# EAGLE library part DE0_NANO_SHIELD (library MODULES)
Mount for the DE0 Nano FPGA dev kit. Can be used for supporting electronics forthe DE0 Nano.
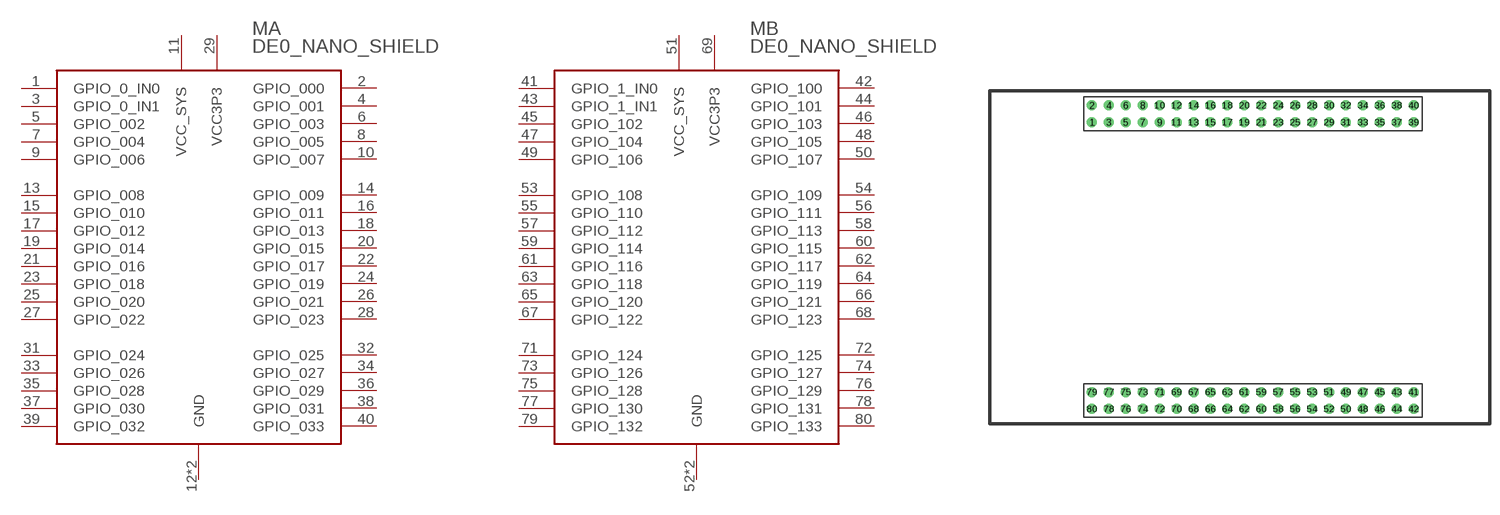
[diagram p7: symbol with the pads of DE0_NANO; footprint DE0_NANO]

Designator prefix M; gates A=DE0_NANO_JP1 B=DE0_NANO_JP2

## DE0_NANO_SHIELD  [DE0_NANO]
1  A:GPIO_0_IN0
2  A:GPIO_000
3  A:GPIO_0_IN1
4  A:GPIO_001
5  A:GPIO_002
6  A:GPIO_003
7  A:GPIO_004
8  A:GPIO_005
9  A:GPIO_006
10  A:GPIO_007
11  A:VCC_SYS
12  A:GND
13  A:GPIO_008
14  A:GPIO_009
15  A:GPIO_010
16  A:GPIO_011
17  A:GPIO_012
18  A:GPIO_013
19  A:GPIO_014
20  A:GPIO_015
21  A:GPIO_016
22  A:GPIO_017
23  A:GPIO_018
24  A:GPIO_019
25  A:GPIO_020
26  A:GPIO_021
27  A:GPIO_022
28  A:GPIO_023
29  A:VCC3P3
30  A:GND
31  A:GPIO_024
32  A:GPIO_025
33  A:GPIO_026
34  A:GPIO_027
35  A:GPIO_028
36  A:GPIO_029
37  A:GPIO_030
38  A:GPIO_031
39  A:GPIO_032
40  A:GPIO_033
41  B:GPIO_1_IN0
42  B:GPIO_100
43  B:GPIO_1_IN1
44  B:GPIO_101
45  B:GPIO_102
46  B:GPIO_103
47  B:GPIO_104
48  B:GPIO_105
49  B:GPIO_106
50  B:GPIO_107
51  B:VCC_SYS
52  B:GND
53  B:GPIO_108
54  B:GPIO_109
55  B:GPIO_110
56  B:GPIO_111
57  B:GPIO_112
58  B:GPIO_113
59  B:GPIO_114
60  B:GPIO_115
61  B:GPIO_116
62  B:GPIO_117
63  B:GPIO_118
64  B:GPIO_119
65  B:GPIO_120
66  B:GPIO_121
67  B:GPIO_122
68  B:GPIO_123
69  B:VCC3P3
70  B:GND
71  B:GPIO_124
72  B:GPIO_125
73  B:GPIO_126
74  B:GPIO_127
75  B:GPIO_128
76  B:GPIO_129
77  B:GPIO_130
78  B:GPIO_131
79  B:GPIO_132
80  B:GPIO_133

## Footprint DE0_NANO (pad centres in mm)
drill 1 pad 1.5: 1 -22.13,20.23; 2 -22.13,22.77; 3 -19.59,20.23; 4 -19.59,22.77; 5 -17.05,20.23; 6 -17.05,22.77; 7 -14.51,20.23; 8 -14.51,22.77; 9 -11.97,20.23; 10 -11.97,22.77; 11 -9.43,20.23; 12 -9.43,22.77; 13 -6.89,20.23; 14 -6.89,22.77; 15 -4.35,20.23; 16 -4.35,22.77; 17 -1.81,20.23; 18 -1.81,22.77; 19 0.73,20.23; 20 0.73,22.77; 21 3.27,20.23; 22 3.27,22.77; 23 5.81,20.23; 24 5.81,22.77; 25 8.35,20.23; 26 8.35,22.77; 27 10.89,20.23; 28 10.89,22.77; 29 13.43,20.23; 30 13.43,22.77; 31 15.97,20.23; 32 15.97,22.77; 33 18.51,20.23; 34 18.51,22.77; 35 21.05,20.23; 36 21.05,22.77; 37 23.59,20.23; 38 23.59,22.77; 39 26.13,20.23; 40 26.13,22.77; 41 26.13,-20.23; 42 26.13,-22.77; 43 23.59,-20.23; 44 23.59,-22.77; 45 21.05,-20.23; 46 21.05,-22.77; 47 18.51,-20.23; 48 18.51,-22.77; 49 15.97,-20.23; 50 15.97,-22.77; 51 13.43,-20.23; 52 13.43,-22.77; 53 10.89,-20.23; 54 10.89,-22.77; 55 8.35,-20.23; 56 8.35,-22.77; 57 5.81,-20.23; 58 5.81,-22.77; 59 3.27,-20.23; 60 3.27,-22.77; 61 0.73,-20.23; 62 0.73,-22.77; 63 -1.81,-20.23; 64 -1.81,-22.77; 65 -4.35,-20.23; 66 -4.35,-22.77; 67 -6.89,-20.23; 68 -6.89,-22.77; 69 -9.43,-20.23; 70 -9.43,-22.77; 71 -11.97,-20.23; 72 -11.97,-22.77; 73 -14.51,-20.23; 74 -14.51,-22.77; 75 -17.05,-20.23; 76 -17.05,-22.77; 77 -19.59,-20.23; 78 -19.59,-22.77; 79 -22.13,-20.23; 80 -22.13,-22.77